# Altium footprint library Vishay Roederstein Footprints.PcbLib: 150 footprints (part 9 of 10)
Each footprint in its own frame and in the unit in brackets; x right, y up, seen from the top. Pads: shape width x height; smd on the part's side, far side on the other; paste and mask are expansions set on the pad; w line width, h text height; cw(c..) or ccw(c..) is an arc to the next point about the centre after c.
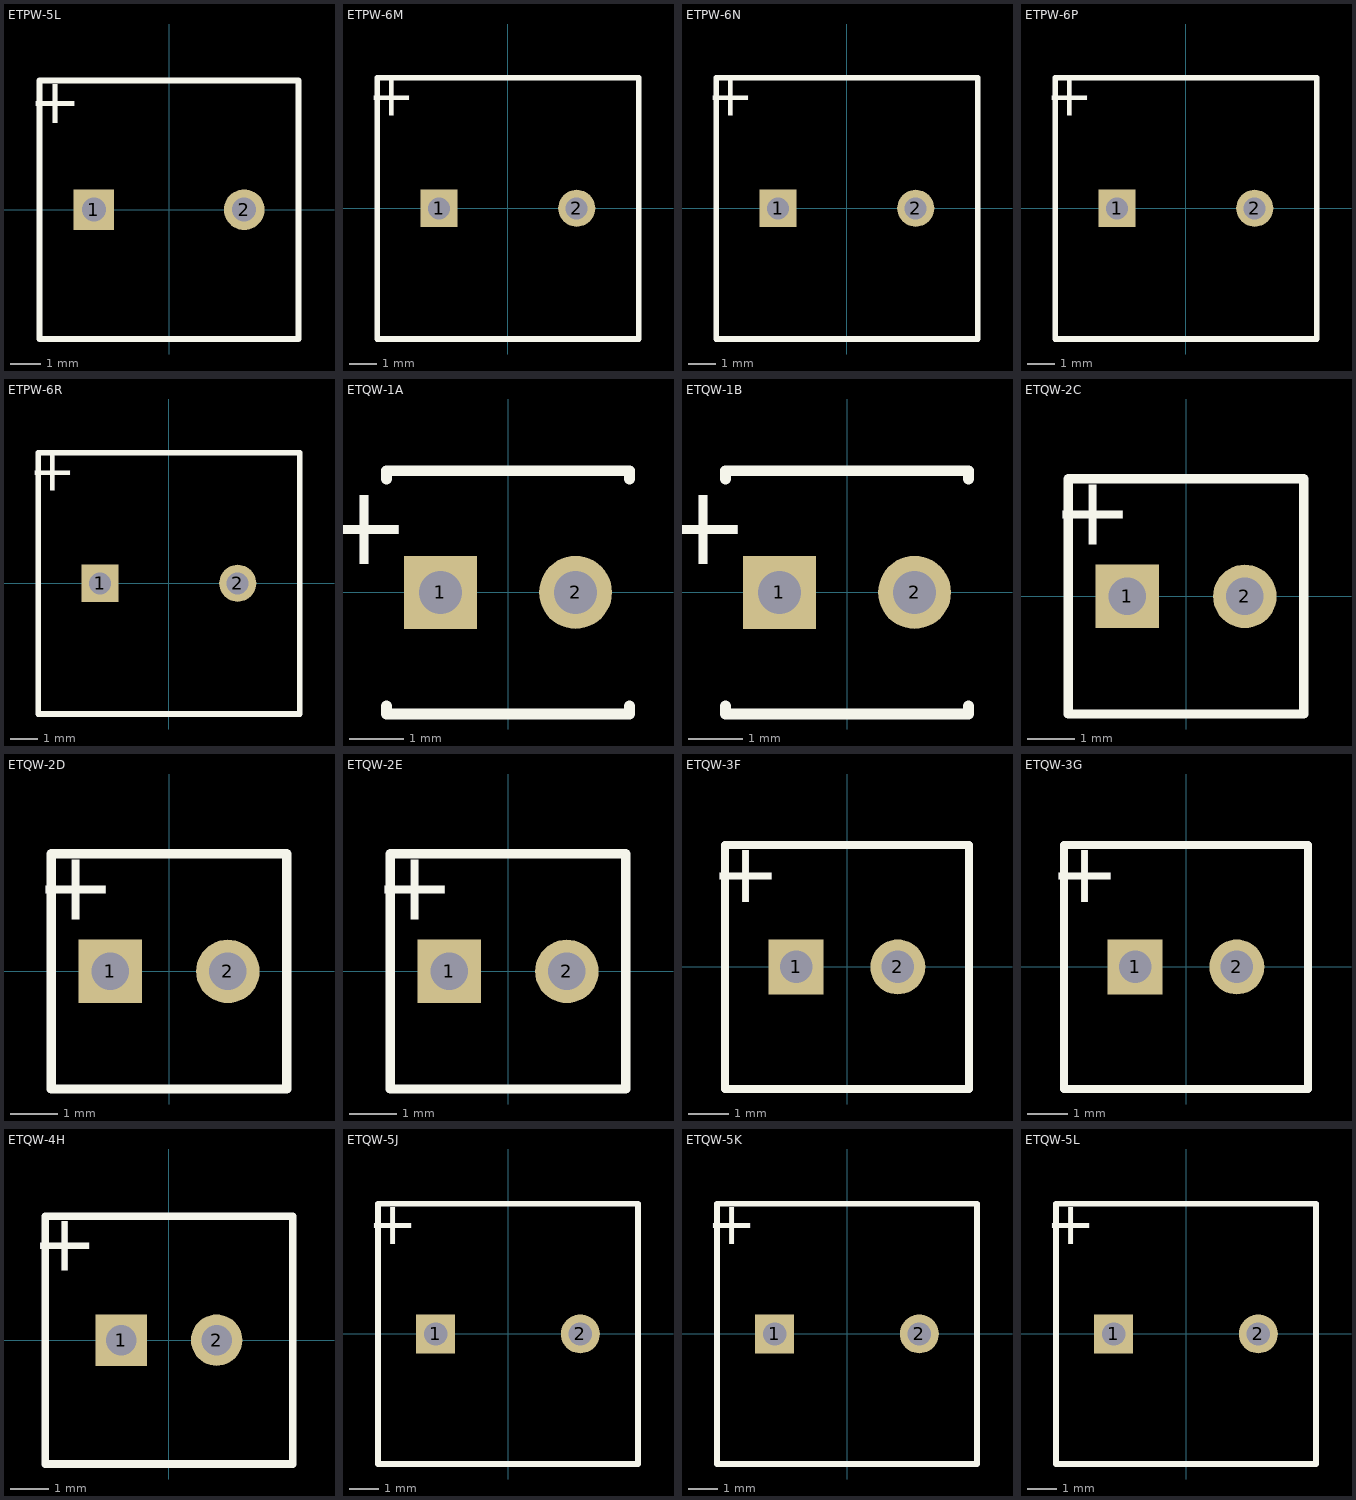
[diagram p8: the footprints below, top view; thin cyan lines are the x and y axes]

## ETPW-5L [mm] "Capacitor, Tantalum Bead; Body 8.6 x 12.5 mm (Dia.xH max); Pin Spacing 5.0 mm (typ)"
height 12.5
pads (2):
  rect 1.35x1.35 hole 0.8: 1(-2.5,0)
  round 1.35 hole 0.8: 2(2.5,0)
Top Overlay:
  lines w0.2: -4.3,-4.3 4.3,-4.3 4.3,4.3 -4.3,4.3 -4.3,-4.3
  text "+" at -2.925,4.175 h1.5

## ETPW-6M [mm] "Capacitor, Tantalum Bead; Body 9.5 x 15 mm (Dia.xH max); Pin Spacing 5.0 mm (typ)"
height 15
pads (2):
  rect 1.35x1.35 hole 0.8: 1(-2.5,0)
  round 1.35 hole 0.8: 2(2.5,0)
Top Overlay:
  lines w0.2: -4.747,-4.75 -4.747,4.75 4.753,4.75 4.753,-4.75 -4.747,-4.75
  text "+" at -3.375,4.652 h1.5

## ETPW-6N [mm] "Capacitor, Tantalum Bead; Body 9.5 x 15 mm (Dia.xH max); Pin Spacing 5.0 mm (typ)"
height 15
pads (2):
  rect 1.35x1.35 hole 0.8: 1(-2.5,0)
  round 1.35 hole 0.8: 2(2.5,0)
Top Overlay:
  lines w0.2: -4.747,-4.75 -4.747,4.75 4.753,4.75 4.753,-4.75 -4.747,-4.75
  text "+" at -3.375,4.652 h1.5

## ETPW-6P [mm] "Capacitor, Tantalum Bead; Body 9.5 x 16 mm (Dia.xH max); Pin Spacing 5.0 mm (typ)"
height 16
pads (2):
  rect 1.35x1.35 hole 0.8: 1(-2.5,0)
  round 1.35 hole 0.8: 2(2.5,0)
Top Overlay:
  lines w0.2: -4.747,-4.75 -4.747,4.75 4.753,4.75 4.753,-4.75 -4.747,-4.75
  text "+" at -3.375,4.652 h1.5

## ETPW-6R [mm] "Capacitor, Tantalum Bead; Body 9.5 x 16 mm (Dia.xH max); Pin Spacing 5.0 mm (typ)"
height 16
pads (2):
  rect 1.35x1.35 hole 0.8: 1(-2.5,0)
  round 1.35 hole 0.8: 2(2.5,0)
Top Overlay:
  lines w0.2: -4.747,-4.75 -4.747,4.75 4.753,4.75 4.753,-4.75 -4.747,-4.75
  text "+" at -3.375,4.652 h1.5

## ETQW-1A [mm] "Capacitor, Tantalum Bead; Body 4.5 x 7.5 mm (Dia.xH max); Pin Spacing 2.5 mm (typ)"
height 7.5
pads (2):
  rect 1.35x1.35 hole 0.8: 1(-1.25,0)
  round 1.35 hole 0.8: 2(1.25,0)
Top Overlay:
  lines w0.2: -2.25,-2.1 -2.25,-2.25 2.25,-2.25 2.25,-2.1 ; -2.25,2.1 -2.25,2.25 2.25,2.25 2.25,2.1
  text "+" at -1.8,1.8 h1.5

## ETQW-1B [mm] "Capacitor, Tantalum Bead; Body 4.5 x 7.5 mm (Dia.xH max); Pin Spacing 2.5 mm (typ)"
height 7.5
pads (2):
  rect 1.35x1.35 hole 0.8: 1(-1.25,0)
  round 1.35 hole 0.8: 2(1.25,0)
Top Overlay:
  lines w0.2: -2.25,-2.1 -2.25,-2.25 2.25,-2.25 2.25,-2.1 ; -2.25,2.1 -2.25,2.25 2.25,2.25 2.25,2.1
  text "+" at -1.8,1.8 h1.5

## ETQW-2C [mm] "Capacitor, Tantalum Bead; Body 5 x 9.5 mm (Dia.xH max); Pin Spacing 2.5 mm (typ)"
height 9.5
pads (2):
  rect 1.35x1.35 hole 0.8: 1(-1.25,0)
  round 1.35 hole 0.8: 2(1.25,0)
Top Overlay:
  lines w0.2: -2.5,-2.5 2.5,-2.5 2.5,2.5 -2.5,2.5 -2.5,-2.5
  text "+" at -1.126,2.375 h1.5

## ETQW-2D [mm] "Capacitor, Tantalum Bead; Body 5 x 9.5 mm (Dia.xH max); Pin Spacing 2.5 mm (typ)"
height 9.5
pads (2):
  rect 1.35x1.35 hole 0.8: 1(-1.25,0)
  round 1.35 hole 0.8: 2(1.25,0)
Top Overlay:
  lines w0.2: -2.5,-2.5 2.5,-2.5 2.5,2.5 -2.5,2.5 -2.5,-2.5
  text "+" at -1.126,2.375 h1.5

## ETQW-2E [mm] "Capacitor, Tantalum Bead; Body 5 x 9.5 mm (Dia.xH max); Pin Spacing 2.5 mm (typ)"
height 9.5
pads (2):
  rect 1.35x1.35 hole 0.8: 1(-1.25,0)
  round 1.35 hole 0.8: 2(1.25,0)
Top Overlay:
  lines w0.2: -2.5,-2.5 2.5,-2.5 2.5,2.5 -2.5,2.5 -2.5,-2.5
  text "+" at -1.126,2.375 h1.5

## ETQW-3F [mm] "Capacitor, Tantalum Bead; Body 6 x 10.5 mm (Dia.xH max); Pin Spacing 2.5 mm (typ)"
height 10.5
pads (2):
  rect 1.35x1.35 hole 0.8: 1(-1.25,0)
  round 1.35 hole 0.8: 2(1.25,0)
Top Overlay:
  lines w0.2: -3,-3 3,-3 3,3 -3,3 -3,-3
  text "+" at -1.625,2.875 h1.5

## ETQW-3G [mm] "Capacitor, Tantalum Bead; Body 6 x 10.5 mm (Dia.xH max); Pin Spacing 2.5 mm (typ)"
height 10.5
pads (2):
  rect 1.35x1.35 hole 0.8: 1(-1.25,0)
  round 1.35 hole 0.8: 2(1.25,0)
Top Overlay:
  lines w0.2: -3,-3 -3,3 3,3 3,-3 -3,-3
  text "+" at -1.625,2.875 h1.5

## ETQW-4H [mm] "Capacitor, Tantalum Bead; Body 6.5 x 11.5 mm (Dia.xH max); Pin Spacing 2.5 mm (typ)"
height 11.5
pads (2):
  rect 1.35x1.35 hole 0.8: 1(-1.25,0)
  round 1.35 hole 0.8: 2(1.25,0)
Top Overlay:
  lines w0.2: -3.25,-3.25 -3.25,3.25 3.25,3.25 3.25,-3.25 -3.25,-3.25
  text "+" at -1.875,3.125 h1.5

## ETQW-5J [mm] "Capacitor, Tantalum Bead; Body 9 x 14 mm (Dia.xH max); Pin Spacing 5.0 mm (typ)"
height 14
pads (2):
  rect 1.35x1.35 hole 0.8: 1(-2.5,0)
  round 1.35 hole 0.8: 2(2.5,0)
Top Overlay:
  lines w0.2: -4.5,-4.5 -4.5,4.5 4.5,4.5 4.5,-4.5 -4.5,-4.5
  text "+" at -3.125,4.375 h1.5

## ETQW-5K [mm] "Capacitor, Tantalum Bead; Body 9 x 14 mm (Dia.xH max); Pin Spacing 5.0 mm (typ)"
height 14
pads (2):
  rect 1.35x1.35 hole 0.8: 1(-2.5,0)
  round 1.35 hole 0.8: 2(2.5,0)
Top Overlay:
  lines w0.2: -4.5,-4.5 -4.5,4.5 4.5,4.5 4.5,-4.5 -4.5,-4.5
  text "+" at -3.125,4.375 h1.5

## ETQW-5L [mm] "Capacitor, Tantalum Bead; Body 9 x 14 mm (Dia.xH max); Pin Spacing 5.0 mm (typ)"
height 14
pads (2):
  rect 1.35x1.35 hole 0.8: 1(-2.5,0)
  round 1.35 hole 0.8: 2(2.5,0)
Top Overlay:
  lines w0.2: -4.5,-4.5 -4.5,4.5 4.5,4.5 4.5,-4.5 -4.5,-4.5
  text "+" at -3.125,4.375 h1.5